# Altium schematic symbol library ADS7843E.SchLib: 1 symbol
Pins are listed as number, name and electrical type; pins without a type are passive.

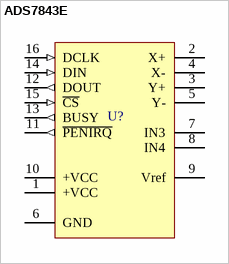
[diagram p0: symbol ADS7843E]

## ADS7843E
designator U?
Touch Screen Controller
pins: 1 +VCC (power), 2 X+, 3 Y+, 4 X-, 5 Y-, 6 GND (power), 7 IN3, 8 IN4, 9 Vref, 10 +VCC (power), 11 ~{PENIRQ} (out), 12 DOUT (out), 13 BUSY (out), 14 DIN (in), 15 ~{CS} (in), 16 DCLK (in)